# Altium footprint library 7805.PcbLib: 1 footprints
Each footprint in its own frame and in the unit in brackets; x right, y up, seen from the top. Pads: shape width x height; smd on the part's side, far side on the other; paste and mask are expansions set on the pad; w line width, h text height; cw(c..) or ccw(c..) is an arc to the next point about the centre after c.
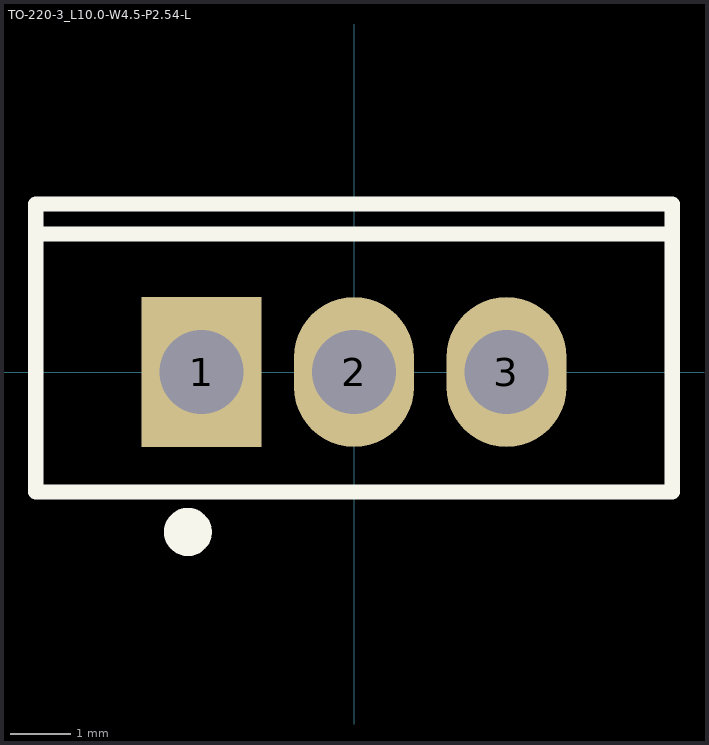
[diagram p0: the footprint, top view; thin cyan lines are the x and y axes]

## TO-220-3_L10.0-W4.5-P2.54-L [mm]
pads (3):
  rect 2.002x2.499 hole 1.4: 1(-2.54,0)
  oval 2x2.5 hole 1.4: 2(0,0) 3(2.54,0)
Top Overlay:
  lines w0.254: -5.3,2.3 5.3,2.3 ; -5.301,-1.999 -5.301,2.794 -5.301,2.799 5.301,2.799 5.301,-1.999 -5.301,-1.999
  lines w0.4: -2.769,-2.464 ccw(c-2.767,-2.664) -2.766,-2.464